# EAGLE library part AP63201WU-7 (library AP63201WU-7)
Switching Voltage Regulators DCDC Conv HV Buck TSOT26 T&R 3K Source: Datasheet <https://mouser.componentsearchengine.com/Datasheets/1/AP63201WU-7.pdf>
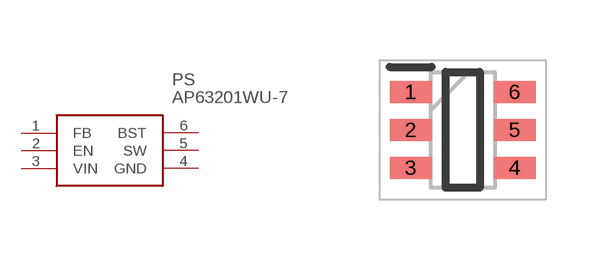
[diagram p0: symbol with the pads of SOT95P280X100-6N; footprint SOT95P280X100-6N]

Designator prefix PS

## AP63201WU-7 (Arrow_Part_Number: AP63201WU-7; Arrow_Price-Stock: https://www.arrow.com/en/products/ap63201wu-7/diodes-incorporated?region=nac; Description: Switching Voltage Regulators DCDC Conv HV Buck TSOT26 T&R 3K; Height: 1mm; Manufacturer_Name: Diodes Inc.; Manufacturer_Part_Number: AP63201WU-7; Mouser_Part_Number: 621-AP63201WU-7; Mouser_Price-Stock: https://www.mouser.co.uk/ProductDetail/Diodes-Incorporated/AP63201WU-7?qs=u16ybLDytRaVD%252BU3eG30NA%3D%3D)  [SOT95P280X100-6N]
1  FB
2  EN
3  VIN
4  GND
5  SW
6  BST

## Footprint SOT95P280X100-6N (pad centres in mm)
TSOT26_
smd 1.05 x 0.55: 1 -1.3,0.95; 2 -1.3,0; 3 -1.3,-0.95; 4 1.3,-0.95; 5 1.3,0; 6 1.3,0.95